# EAGLE library part TLV272 (library personal)
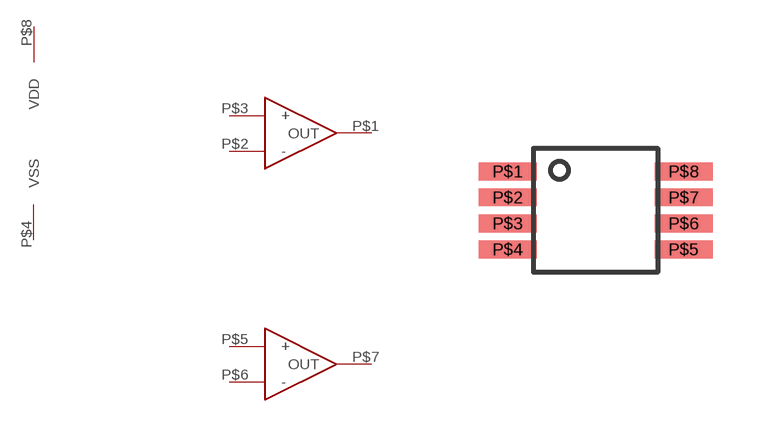
[diagram p2: symbol with the pads of VSSOP-8; footprint VSSOP-8]

Designator prefix -; gates G$1=TLV272-PWR G$2=TLV272-AOP G$3=TLV272-AOP

## TLV272  [VSSOP-8]
P$1  G$2:OUT
P$2  G$2:-
P$3  G$2:+
P$4  G$1:VSS
P$5  G$3:+
P$6  G$3:-
P$7  G$3:OUT
P$8  G$1:VDD

## Footprint VSSOP-8 (pad centres in mm)
smd 1.45 x 0.45: P$1 -2.2,0.975; P$2 -2.2,0.325; P$3 -2.2,-0.325; P$4 -2.2,-0.975; P$5 2.2,-0.975; P$6 2.2,-0.325; P$7 2.2,0.325; P$8 2.2,0.975